# EAGLE library part UDA1380 (library carrilib)
Stereo Audio Coder-Decoder Manufacturer: NXP Part Number: UDA1380HN
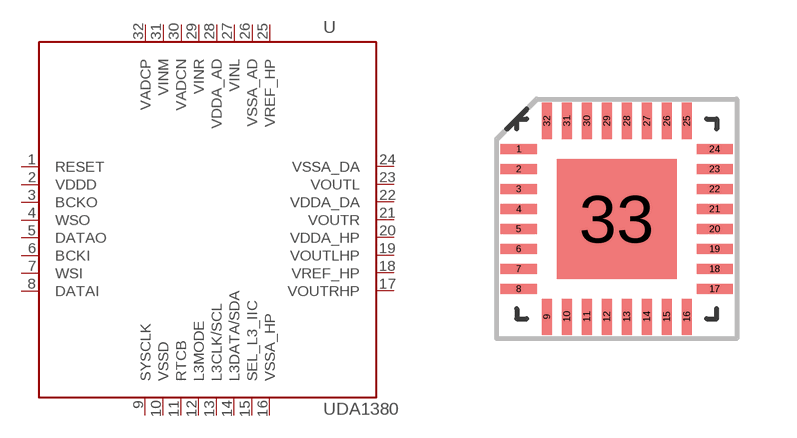
[diagram p23: symbol with the pads of HVQFN32; footprint HVQFN32]

Designator prefix U

## UDA1380HN  [HVQFN32]
1  RESET
2  VDDD  pwr
3  BCKO
4  WSO
5  DATAO
6  BCKI
7  WSI
8  DATAI
9  SYSCLK
10  VSSD  pwr
11  RTCB
12  L3MODE
13  L3CLK/SCL
14  L3DATA/SDA
15  SEL_L3_IIC
16  VSSA_HP  pwr
17  VOUTRHP  pwr
18  VREF_HP  pwr
19  VOUTLHP  pwr
20  VDDA_HP  pwr
21  VOUTR  pwr
22  VDDA_DA  pwr
23  VOUTL  pwr
24  VSSA_DA  pwr
25  VREF_HP  pwr
26  VSSA_AD  pwr
27  VINL  pwr
28  VDDA_AD  pwr
29  VINR  pwr
30  VADCN  pwr
31  VINM  pwr
32  VADCP  pwr

## Footprint HVQFN32 (pad centres in mm)
HVQFN32 Auto generated by make-symbol-device-package-bsdl.ulp Rev. 43
smd 0.9 x 0.25: 1 -2.45,1.75; 2 -2.45,1.25; 3 -2.45,0.75; 4 -2.45,0.25; 5 -2.45,-0.25; 6 -2.45,-0.75; 7 -2.45,-1.25; 8 -2.45,-1.75; 17 2.45,-1.75; 18 2.45,-1.25; 19 2.45,-0.75; 20 2.45,-0.25; 21 2.45,0.25; 22 2.45,0.75; 23 2.45,1.25; 24 2.45,1.75
smd 0.25 x 0.9: 9 -1.75,-2.45; 10 -1.25,-2.45; 11 -0.75,-2.45; 12 -0.25,-2.45; 13 0.25,-2.45; 14 0.75,-2.45; 15 1.25,-2.45; 16 1.75,-2.45; 25 1.75,2.45; 26 1.25,2.45; 27 0.75,2.45; 28 0.25,2.45; 29 -0.25,2.45; 30 -0.75,2.45; 31 -1.25,2.45; 32 -1.75,2.45
smd 3 x 3: 33 0,0